# Altium schematic symbol library lib-hiony.SchLib: 199 symbols (part 4 of 4)
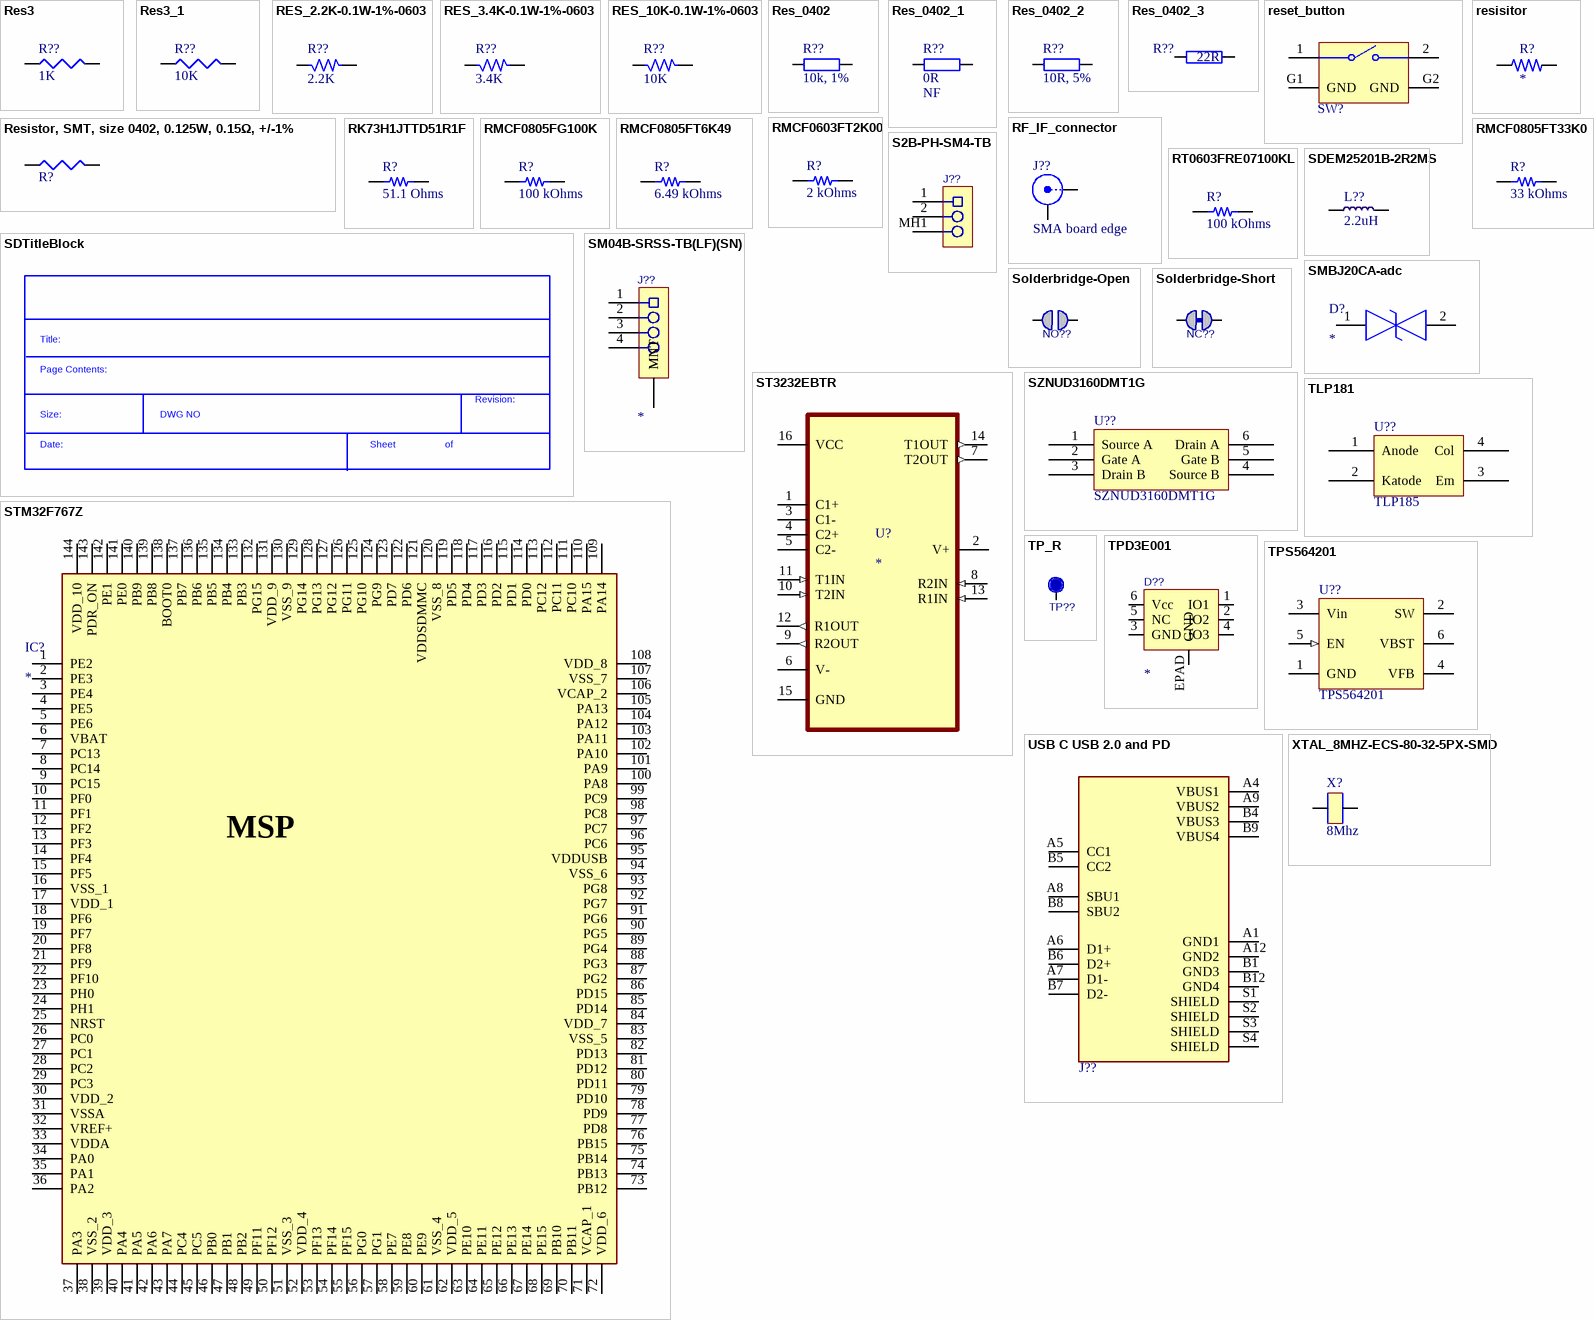
[diagram p8: symbols Res3 to XTAL_8MHZ-ECS-80-32-5PX-SMD]

## SZNUD3160DMT1G
designator U??
IC INDUCTIVE LOAD DVR IND SC74-6; Digi-Key Part Number: SZNUD3160DMT1GOSCT-ND; Manufacturer Part Number: SZNUD3160DMT1G
footprint LMR14203 (SOP, 6-Leads, Body 3,00x2,10mm, Pitch 0,95mm, IPC Medium Density)
pins: 1 Source A, 2 Gate A, 3 Drain B, 4 Source B, 5 Gate B, 6 Drain A

## TLP181
designator U??, comment TLP185
Optoisolator Transistor Output 3750Vrms 1 Channel 6-SO, 4 Lead; Manufacturer Part Number: TLP185(GRL-TL,SE; Digi-Key Part Number: TLP185(GRL-TLSECT-ND
footprint TL-OTOCOLOR
pins: 1 Anode, 2 Katode, 3 Em, 4 Col

## TP_R
designator TP??, comment TP  (value not drawn)  (no BOM)
Testpoint, Round 1.0mm Dia; Part Number: TP10R; Added By: Jeremy D; Size: 1.0mm; Height: 0; DNP: DNP; Added Date: 2/1/2015; Checked By: Paul B; Checked Date: 2/5/2015
footprint TP12R (Testpoint, Round 1.2mm Dia)
pins: 1

## TPD3E001
designator D??
TVS Diode, ESD High Speed 3-Channel Array, WSON-6, 3mmX3mm; Manufacturer 1: Texas Instruments; Manufacturer Part Number 1: TPD3E001DRSR; Part Name: Diode TVS 5V 3CH WSON-6; Current: None; Item Phase: In Production; MFG Package: WSON-6, DRS (S-PWSON-N6); Use in new designs: Yes; Voltage: 5.5V; Manufacturer 2: None; Manufacturer Part Number 2: None; Supplier 2: None; Supplier Part Number 2: None; Body Size: 3mm x 3mm; Height: 0.80mm; Max Operating Temp: 85; Min Operating Temp: -40; Pins: 6; Revision: 0A; UBX Code: None; Manufacturer P/N: *
footprint TPD3E001DRSR (TI DSR Package - WSON-6 0.95mm Pitch, 6 Pin w/ EPAD, 3.0mm x 3.0mm)
pins: 1 IO1, 2 IO2, 3 GND (power), 4 IO3, 5 NC, 6 Vcc (power), EPAD GND (power)

## TPS564201
designator U??
Buck Converter, 4.5-17V in, 0.76-7V out, 4A, TSOT-6; Manufacturer: Texas Instruments; Supplier: Digi-Key; Supplier Part Number: 296-44195-1-ND; Manufacturer Part Number: TPS564201; Last Modified By: Peter Kazakoff; Last Modified Date: November 13th 2016; Supplier 1: Digi-Key; Supplier Part Number 1: 296-44195-1-ND
footprint SOT95P280X90-6N (SOT23, 6-Leads, Body 2.90x2.80mm, Pitch 0.95mm, IPC Medium Density)
pins: 1 GND (power), 2 SW, 3 Vin (power), 4 VFB, 5 EN (in), 6 VBST

## USB C USB 2.0 and PD
designator J??, comment 16 Pin Mid Mount USB C  (value not drawn)
USB-C USB 2.0 5A PD 16 Position Mid Mount; Manufacturer: Jing Extension of the Electronic Co; Supplier 1: LCSC; Supplier Part Number 1: C168688
footprint USB-C - 16 Pin Mid Mount (16 Pin USB C Mid Mount)
footprint USB-C - 16 Pin Mid Mount (16 Pin USB C Mid Mount)
pins: A1 GND1, A4 VBUS1, A5 CC1, A6 D1+, A7 D1-, A8 SBU1, A9 VBUS2, A12 GND2, B1 GND3, B4 VBUS3, B5 CC2, B6 D2+, B7 D2-, B8 SBU2, B9 VBUS4, B12 GND4, S1 SHIELD, S2 SHIELD, S3 SHIELD, S4 SHIELD

## XTAL_8MHZ-ECS-80-32-5PX-SMD
designator X?, comment 8Mhz
CRYSTAL 8.0000MHZ 32PF SMD; Manufacturer: ECS International; Manufacturer Part Number: ECS-80-32-5PX-TR; Supplier 1: Digi-Key; Category: Crystals; Stock 1: 1261; Pricing 1: 1=0.45000, 10=0.37500, 50=0.33760, 100=0.30000, 500=0.28500 (USD); Packaging: Tape and Reel; ComponentLink1URL: https://datasheet.ciiva.com/852/csm-7x-852413.pdf?src-supplier=Digi-Key; ComponentLink1Description: https://datasheet.ciiva.com/852/csm-7x-852413.pdf?src-supplier=Digi-Key; ComponentLink2URL: https://datasheet.ciiva.com/852/csm-7x-852414.pdf?src-supplier=Digi-Key; ComponentLink2Description: https://datasheet.ciiva.com/852/csm-7x-852414.pdf?src-supplier=Digi-Key; ComponentLink3URL: https://datasheet.ciiva.com/852/csm-7x-852415.pdf?src-supplier=Digi-Key; ComponentLink3Description: https://datasheet.ciiva.com/852/csm-7x-852415.pdf?src-supplier=Digi-Key; Supplier Part Number 1: XC1272CT-ND
footprint XTAL_314_240X47_SMD (CASE: TH)
pins: 1, 2